# EAGLE library part NRF24LU1P (library MAÑE)
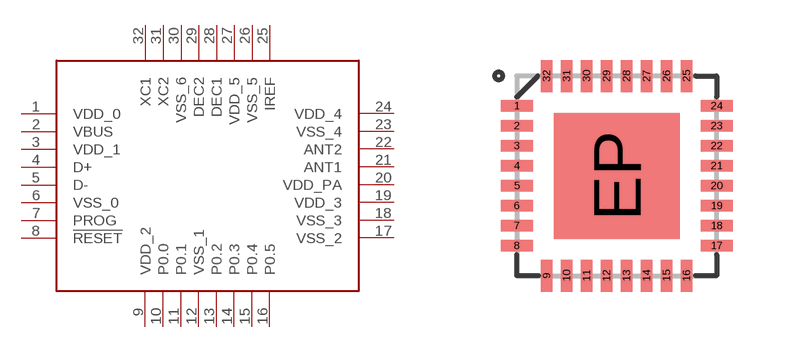
[diagram p14: symbol with the pads of QFN-32; footprint QFN-32]

Designator prefix -

## NRF24LU1P  [QFN-32]
1  VDD_0
2  VBUS
3  VDD_1
4  D+
5  D-
6  VSS_0
7  PROG
8  !RESET
9  VDD_2
10  P0.0
11  P0.1
12  VSS_1
13  P0.2
14  P0.3
15  P0.4
16  P0.5
17  VSS_2
18  VSS_3
19  VDD_3
20  VDD_PA
21  ANT1
22  ANT2
23  VSS_4
24  VDD_4
25  IREF
26  VSS_5
27  VDD_5
28  DEC1
29  DEC2
30  VSS_6
31  XC2
32  XC1

## Footprint QFN-32 (pad centres in mm)
smd 0.8 x 0.285: 1 -2.5,1.75; 2 -2.5,1.25; 3 -2.5,0.75; 4 -2.5,0.25; 5 -2.5,-0.25; 6 -2.5,-0.75; 7 -2.5,-1.25; 8 -2.5,-1.75; 17 2.5,-1.75; 18 2.5,-1.25; 19 2.5,-0.75; 20 2.5,-0.25; 21 2.5,0.25; 22 2.5,0.75; 23 2.5,1.25; 24 2.5,1.75
smd 0.285 x 0.8: 9 -1.75,-2.5; 10 -1.25,-2.5; 11 -0.75,-2.5; 12 -0.25,-2.5; 13 0.25,-2.5; 14 0.75,-2.5; 15 1.25,-2.5; 16 1.75,-2.5; 25 1.75,2.5; 26 1.25,2.5; 27 0.75,2.5; 28 0.25,2.5; 29 -0.25,2.5; 30 -0.75,2.5; 31 -1.25,2.5; 32 -1.75,2.5
smd 3.15 x 3.15: EP 0,0